# EAGLE library part TM4C123GH6PM (library EE445L)
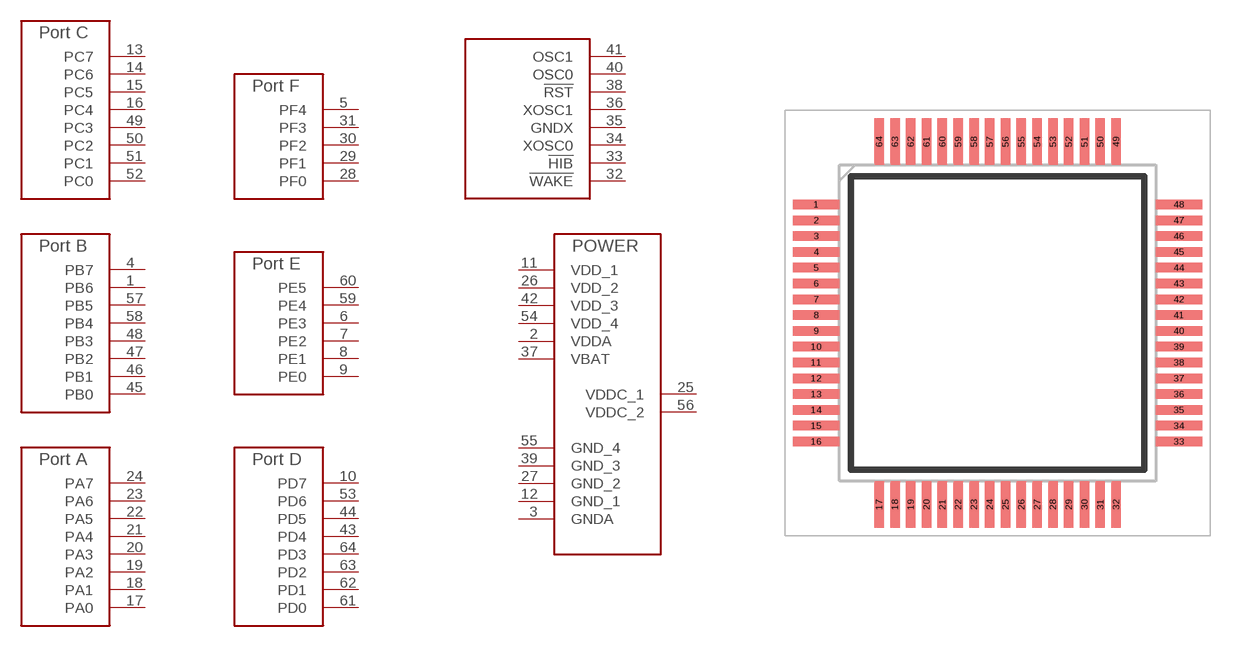
[diagram p29: symbol with the pads of QFP50P1200X1200X160-64N; footprint QFP50P1200X1200X160-64N]

Designator prefix -; gates G$1=TM4C_PORT_A G$2=TM4C_PORT_B G$3=TM4C_PORT_C G$4=TM4C_PORT_D G$5=TM4C_PORT_E G$6=TM4C_PORT_F G$7=TM4C_PORT_MISC G$8=TM4C_PORT_PWR

## TM4C123GH6PM  [QFP50P1200X1200X160-64N]
1  G$2:PB6
2  G$8:VDDA
3  G$8:GNDA
4  G$2:PB7
5  G$6:PF4
6  G$5:PE3
7  G$5:PE2
8  G$5:PE1
9  G$5:PE0
10  G$4:PD7
11  G$8:VDD_1
12  G$8:GND_1
13  G$3:PC7
14  G$3:PC6
15  G$3:PC5
16  G$3:PC4
17  G$1:PA0
18  G$1:PA1
19  G$1:PA2
20  G$1:PA3
21  G$1:PA4
22  G$1:PA5
23  G$1:PA6
24  G$1:PA7
25  G$8:VDDC_1
26  G$8:VDD_2
27  G$8:GND_2
28  G$6:PF0
29  G$6:PF1
30  G$6:PF2
31  G$6:PF3
32  G$7:!WAKE
33  G$7:!HIB
34  G$7:XOSC0
35  G$7:GNDX
36  G$7:XOSC1
37  G$8:VBAT
38  G$7:!RST
39  G$8:GND_3
40  G$7:OSC0
41  G$7:OSC1
42  G$8:VDD_3
43  G$4:PD4
44  G$4:PD5
45  G$2:PB0
46  G$2:PB1
47  G$2:PB2
48  G$2:PB3
49  G$3:PC3
50  G$3:PC2
51  G$3:PC1
52  G$3:PC0
53  G$4:PD6
54  G$8:VDD_4
55  G$8:GND_4
56  G$8:VDDC_2
57  G$2:PB5
58  G$2:PB4
59  G$5:PE4
60  G$5:PE5
61  G$4:PD0
62  G$4:PD1
63  G$4:PD2
64  G$4:PD3

## Footprint QFP50P1200X1200X160-64N (pad centres in mm)
PM (S-PQFP-G64)
smd 1.475 x 0.3: 1 -5.738,3.75; 2 -5.738,3.25; 3 -5.738,2.75; 4 -5.738,2.25; 5 -5.738,1.75; 6 -5.738,1.25; 7 -5.738,0.75; 8 -5.738,0.25; 9 -5.738,-0.25; 10 -5.738,-0.75; 11 -5.738,-1.25; 12 -5.738,-1.75; 13 -5.738,-2.25; 14 -5.738,-2.75; 15 -5.738,-3.25; 16 -5.738,-3.75; 33 5.738,-3.75; 34 5.738,-3.25; 35 5.738,-2.75; 36 5.738,-2.25; 37 5.738,-1.75; 38 5.738,-1.25; 39 5.738,-0.75; 40 5.738,-0.25; 41 5.738,0.25; 42 5.738,0.75; 43 5.738,1.25; 44 5.738,1.75; 45 5.738,2.25; 46 5.738,2.75; 47 5.738,3.25; 48 5.738,3.75
smd 0.3 x 1.475: 17 -3.75,-5.738; 18 -3.25,-5.738; 19 -2.75,-5.738; 20 -2.25,-5.738; 21 -1.75,-5.738; 22 -1.25,-5.738; 23 -0.75,-5.738; 24 -0.25,-5.738; 25 0.25,-5.738; 26 0.75,-5.738; 27 1.25,-5.738; 28 1.75,-5.738; 29 2.25,-5.738; 30 2.75,-5.738; 31 3.25,-5.738; 32 3.75,-5.738; 49 3.75,5.738; 50 3.25,5.738; 51 2.75,5.738; 52 2.25,5.738; 53 1.75,5.738; 54 1.25,5.738; 55 0.75,5.738; 56 0.25,5.738; 57 -0.25,5.738; 58 -0.75,5.738; 59 -1.25,5.738; 60 -1.75,5.738; 61 -2.25,5.738; 62 -2.75,5.738; 63 -3.25,5.738; 64 -3.75,5.738